# EAGLE library part ADG734 (library Traficon)
CMOS, 2.5 Low Voltage, Triple/Quad SPDT Switches
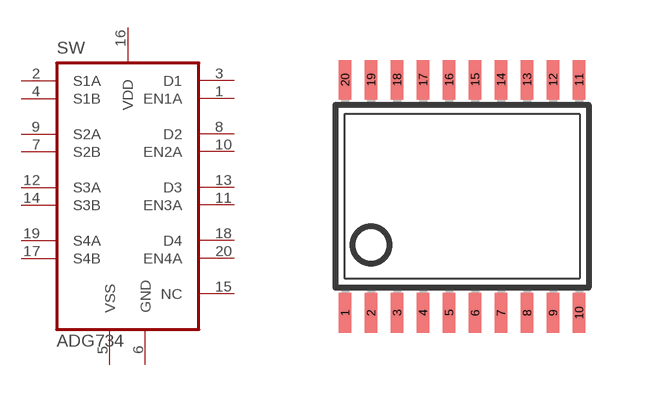
[diagram p103: symbol with the pads of TSSOP20; footprint TSSOP20]

Designator prefix SW

## ADG734BRU  [TSSOP20]
1  EN1A
2  S1A
3  D1
4  S1B
5  VSS
6  GND
7  S2B
8  D2
9  S2A
10  EN2A
11  EN3A
12  S3A
13  D3
14  S3B
15  NC  nc
16  VDD
17  S4B
18  D4
19  S4A
20  EN4A

## Footprint TSSOP20 (pad centres in mm)
Thin Shrink Small Outline Plastic 20 MAX3223-MAX3243.pdf
smd 0.305 x 0.991: 1 -2.925,-2.918; 2 -2.275,-2.918; 3 -1.625,-2.918; 4 -0.975,-2.918; 5 -0.325,-2.918; 6 0.325,-2.918; 7 0.975,-2.918; 8 1.625,-2.918; 9 2.275,-2.918; 10 2.925,-2.918; 11 2.925,2.918; 12 2.275,2.918; 13 1.625,2.918; 14 0.975,2.918; 15 0.325,2.918; 16 -0.325,2.918; 17 -0.975,2.918; 18 -1.625,2.918; 19 -2.275,2.918; 20 -2.925,2.918